# Altium footprint library openmv_lib.PcbLib: 24 footprints (part 2 of 2)
Each footprint in its own frame and in the unit in brackets; x right, y up, seen from the top. Pads: shape width x height; smd on the part's side, far side on the other; paste and mask are expansions set on the pad; w line width, h text height; cw(c..) or ccw(c..) is an arc to the next point about the centre after c.
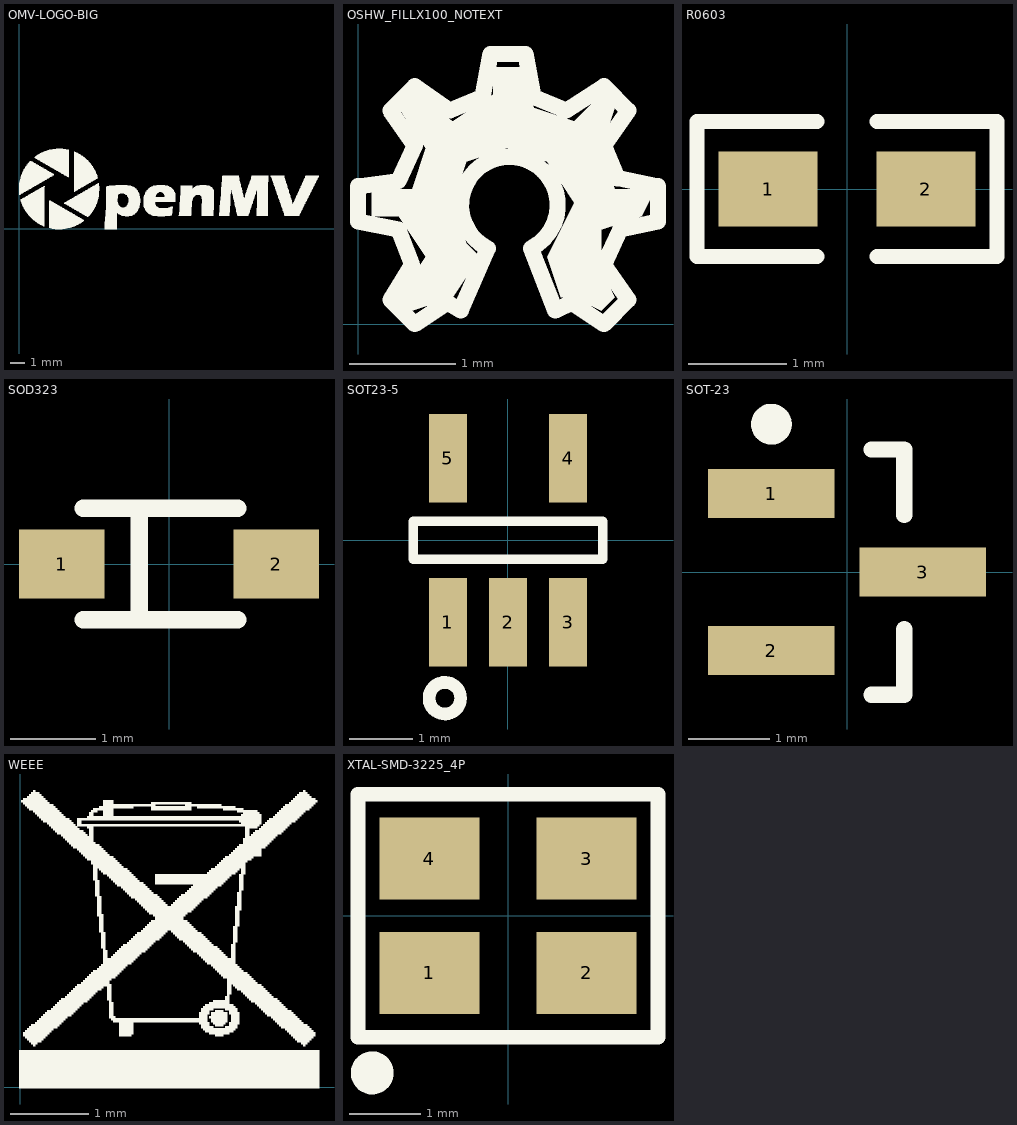
[diagram p1: the footprints below, top view; thin cyan lines are the x and y axes]

## OMV-LOGO-BIG [mm] "OMV-LOGO-BIG"
Top Overlay:
  drawing of 1452 lines, arcs and shapes, not listed

## OSHW_FILLX100_NOTEXT [mm] "OSHW_FILLX100_NOTEXT"
Top Overlay:
  region: 0.889,0.254 0.508,0.127 0.381,0.254 0.635,0.635 0.381,1.016 0.127,1.016 0.127,1.27 0.508,1.27 0.635,1.651 0.381,2.032 0.508,2.159 0.889,1.905 1.27,2.159 1.27,2.413 1.524,2.413 1.651,2.032 2.032,1.905 2.286,2.159 2.413,2.032 2.286,1.651 2.413,1.27 2.794,1.27 2.667,1.016 2.286,0.889 2.286,0.508 2.413,0.254 2.286,0.127 2.032,0.254 1.905,0.254 1.778,0.635 2.032,1.143 1.778,1.524 1.397,1.651 1.016,1.524 0.889,1.143 1.016,0.762 1.143,0.635
  lines w0.152: 0,0.965 0.381,0.889 0.508,0.559 0.305,0.229 0.533,0 0.838,0.203 0.965,0.127 1.219,0.711 cw(c1.422,1.118) 1.626,0.711 1.854,0.127 2.007,0.203 2.311,0 2.54,0.229 2.311,0.559 2.464,0.889 2.819,0.965 2.819,1.295 2.438,1.372 2.311,1.676 2.54,2.007 2.311,2.235 1.956,2.007 1.651,2.134 1.575,2.54 1.245,2.54 1.168,2.134 0.864,2.007 0.533,2.235 0.305,2.007 0.533,1.676 0.381,1.346 0,1.295 0,0.965

## R0603 [mm] "Chip Resistor, 2-Leads, Body 1.6x0.8mm, IPC Medium Density"
height 0.89
pads (2):
  rect 1x0.762 smd: 1(-0.8,0) 2(0.8,0)
Top Overlay:
  lines w0.152: -0.304,-0.686 -1.52,-0.686 -1.52,0.686 -0.304,0.686 ; 0.304,-0.686 1.52,-0.686 1.52,0.686 0.304,0.686
3D body "RESC1608(0603).STEP": height 0.38, standoff 0, extent -0.8,-0.4 0.8,0.4

## SOD323 [mm]
pads (2):
  rect 1x0.8 smd: 1(-1.25,0) 2(1.25,0)
Top Overlay:
  lines w0.203: -1,-0.65 -0.6,-0.65 0.8,-0.65 ; -1,0.65 -0.6,0.65 0.8,0.65 ; -0.346,-0.65 -0.346,0.65

## SOT23-5 [mm]
pads (5):
  rect 0.6x1.4 smd: 1(-0.95,-1.3) 2(0,-1.3) 3(0.95,-1.3) 4(0.95,1.3) 5(-0.95,1.3)
Top Overlay:
  circle w0.2: c-1,-2.5 r0.25
  lines w0.15: -1.5,-0.3 -1.5,0.3 1.5,0.3 1.5,-0.3 -1.5,-0.3
3D body "SW3DPS-SOT-23-5-DEFAULT.STEP": height 1.05, standoff -0.05, extent -1.5,-1.25 1.5,1.25

## SOT-23 [mm] "SOT23, 3-Leads, Body 3.0x2.6mm (max), Pitch 0.96mm, IPC Medium Density"
height 1.12
pads (3):
  rect 1.55x0.6 smd: 1(-0.925,0.96) 2(-0.925,-0.96) 3(0.925,0)
Top Overlay:
  circle w0.25: c-0.925,1.81 r0.125
  lines w0.2: 0.3,-1.5 0.7,-1.5 0.7,-0.7 ; 0.3,1.5 0.7,1.5 0.7,0.7
3D body "SOT23.STEP": height 1.08, standoff 0, extent -1.345,-1.5 1.295,1.5

## WEEE [mm] "WEEE"
Top Overlay:
  drawing of 457 lines, arcs and shapes, not listed

## XTAL-SMD-3225_4P [mm]
pads (4):
  rect 1.4x1.15 smd: 1(-1.1,-0.8) 2(1.1,-0.8) 3(1.1,0.8) 4(-1.1,0.8)
Top Overlay:
  circle w0.3: c-1.9,-2.2 r0.15
  lines w0.203: -2.1,-1.7 -2.1,1.7 2.1,1.7 2.1,-1.7 -2.1,-1.7
3D body "User Library-3225-1.STEP": height 0.61, standoff 0, extent -1.6,-1.25 1.6,1.25